# EAGLE library part PRO-MINI-2 (library arduino_clone)
Arduino Pro Mini Layout 2 Sparkfun.com
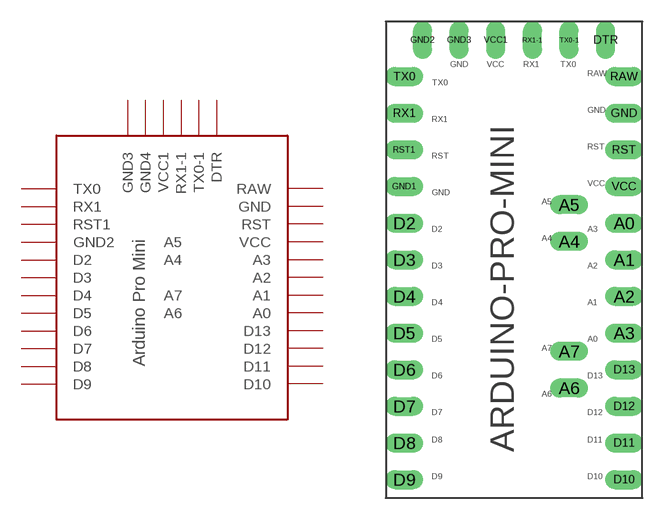
[diagram p2: symbol with the pads of PRO-MINI-2; footprint PRO-MINI-2]

Designator prefix -

## PRO-MINI-2  [PRO-MINI-2]
A0  A0
A1  A1
A2  A2
A3  A3
A4  A4
A5  A5
A6  A6
A7  A7
D2  D2
D3  D3
D4  D4
D5  D5
D6  D6
D7  D7
D8  D8
D9  D9
D10  D10
D11  D11
D12  D12
D13  D13
DTR  DTR
GND  GND
GND1  GND2
GND2  GND3
GND3  GND4
RAW  RAW
RST  RST
RST1  RST1
RX1  RX1
RX1-1  RX1-1
TX0  TX0
TX0-1  TX0-1
VCC  VCC
VCC1  VCC1

## Footprint PRO-MINI-2 (pad centres in mm)
drill 0.8 long: A0 16.51,19.05; A1 16.51,16.51; A2 16.51,13.97; A3 16.51,11.43; A4 12.7,17.78; A5 12.7,20.32; A6 12.7,7.62; A7 12.7,10.16; D2 1.27,19.05; D3 1.27,16.51; D4 1.27,13.97; D5 1.27,11.43; D6 1.27,8.89; D7 1.27,6.35; D8 1.27,3.81; D9 1.27,1.27; D10 16.51,1.27; D11 16.51,3.81; D12 16.51,6.35; D13 16.51,8.89; DTR 15.24,31.75; GND 16.51,26.67; GND1 1.27,21.59; GND2 2.54,31.75; GND3 5.08,31.75; RAW 16.51,29.21; RST 16.51,24.13; RST1 1.27,24.13; RX1 1.27,26.67; RX1-1 10.16,31.75; TX0 1.27,29.21; TX0-1 12.7,31.75; VCC 16.51,21.59; VCC1 7.62,31.75